# Altium footprint library niuziswitch_pcv.PcbLib: 1 footprints
Each footprint in its own frame and in the unit in brackets; x right, y up, seen from the top. Pads: shape width x height; smd on the part's side, far side on the other; paste and mask are expansions set on the pad; w line width, h text height; cw(c..) or ccw(c..) is an arc to the next point about the centre after c.
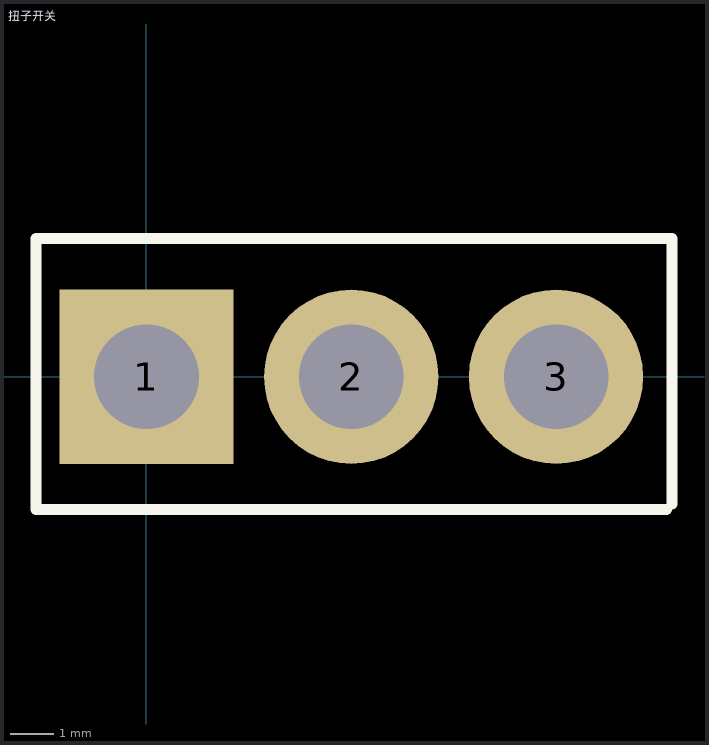
[diagram p0: the footprint, top view; thin cyan lines are the x and y axes]

## 扭子开关 [mm]
pads (3):
  rect 4x4 hole 2.4: 1(0,0)
  round 4 hole 2.4: 2(4.7,0) 3(9.4,0)
Top Overlay:
  lines w0.254: 11.938,-3.048 -2.54,-3.048 -2.54,3.175 12.065,3.175 12.065,-2.921
Top Paste:
  lines w0.254: 11.938,-3.048 12.065,-2.921